# EAGLE library part 74AHC2G08DP (library carrilib)
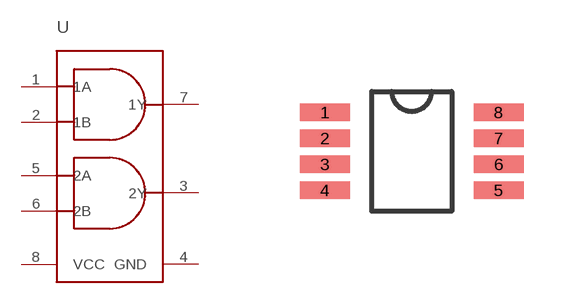
[diagram p35: symbol with the pads of TSSOP8; footprint TSSOP8]

Designator prefix -

## 74AHC2G08DP  [TSSOP8]
1  1A
2  1B
3  2Y
4  GND
5  2A
6  2B
7  1Y
8  VCC

## Footprint TSSOP8 (pad centres in mm)
smd 1.25 x 0.43: 1 -2.175,0.975; 2 -2.175,0.325; 3 -2.175,-0.325; 4 -2.175,-0.975; 5 2.175,-0.975; 6 2.175,-0.325; 7 2.175,0.325; 8 2.175,0.975